# EAGLE library part MOD_TP4056 (library TP4056+mod)
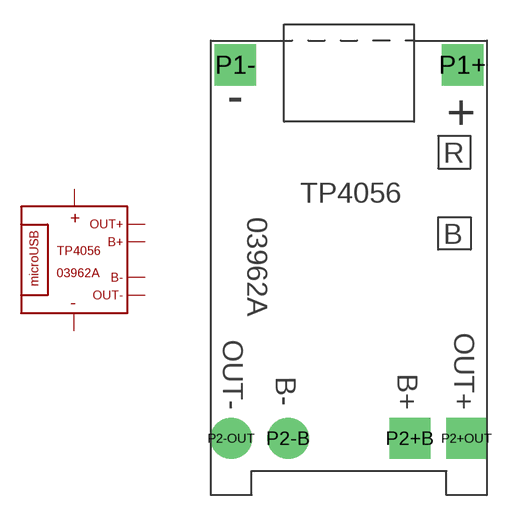
[diagram p3: symbol with the pads of MOD_03962A; footprint MOD_03962A]

Designator prefix -

## MOD_TP4056  [MOD_03962A]
P1+  P1+
P1-  P1-
P2+B  P2+B
P2+OUT  P2+OUT
P2-B  P2-B
P2-OUT  P2-OUT

## Footprint MOD_03962A (pad centres in mm)
drill 1 pad 2.54 square: P1+ 7,4.88; P1- -7,4.88; P2+B 3.75,-18.12; P2+OUT 7.25,-18.12
drill 1 pad 2.54: P2-B -3.75,-18.12; P2-OUT -7.25,-18.12